# EAGLE library part LAN8720 (library EthernetChip)
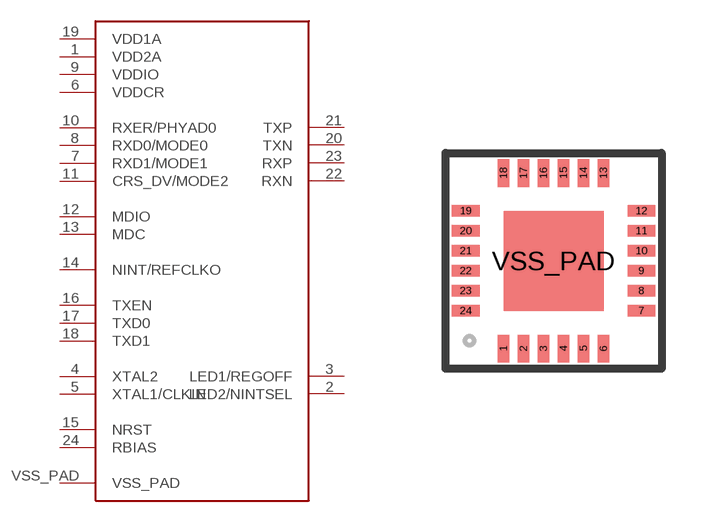
[diagram p0: symbol with the pads of 24-QFN; footprint 24-QFN]

Designator prefix -

## LAN8720LAN8720  [24-QFN]
1  VDD2A
2  LED2/NINTSEL
3  LED1/REGOFF
4  XTAL2
5  XTAL1/CLKIN
6  VDDCR
7  RXD1/MODE1
8  RXD0/MODE0
9  VDDIO
10  RXER/PHYAD0
11  CRS_DV/MODE2
12  MDIO
13  MDC
14  NINT/REFCLKO
15  NRST
16  TXEN
17  TXD0
18  TXD1
19  VDD1A
20  TXN
21  TXP
22  RXN
23  RXP
24  RBIAS
VSS_PAD  VSS_PAD

## Footprint 24-QFN (pad centres in mm)
smd 0.28 x 0.69: 1 -1.25,-2.195; 2 -0.75,-2.195; 3 -0.25,-2.195; 4 0.25,-2.195; 5 0.75,-2.195; 6 1.25,-2.195; 13 1.25,2.195; 14 0.75,2.195; 15 0.25,2.195; 16 -0.25,2.195; 17 -0.75,2.195; 18 -1.25,2.195
smd 0.69 x 0.28: 7 2.195,-1.25; 8 2.195,-0.75; 9 2.195,-0.25; 10 2.195,0.25; 11 2.195,0.75; 12 2.195,1.25; 19 -2.195,1.25; 20 -2.195,0.75; 21 -2.195,0.25; 22 -2.195,-0.25; 23 -2.195,-0.75; 24 -2.195,-1.25
smd 2.5 x 2.5: VSS_PAD 0,0